# Altium schematic symbol library BT740.SchLib: 1 symbol
Pins are listed as number, name and electrical type; pins without a type are passive.

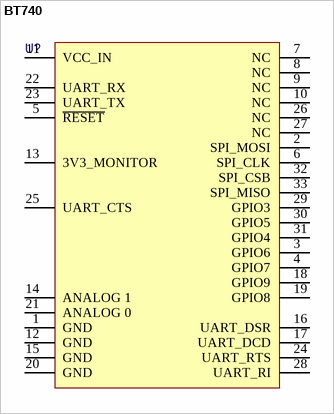
[diagram p0: symbol BT740]

## BT740
designator U?
pins: 1 GND, 2 SPI_MOSI (power), 3 GPIO6, 4 GPIO7, 5 ~{RESET}, 6 SPI_CLK, 7 NC, 8 NC, 9 NC, 10 NC, 11 VCC_IN, 12 GND, 13 3V3_MONITOR, 14 ANALOG 1, 15 GND, 16 UART_DSR, 17 UART_DCD, 18 GPIO9, 19 GPIO8, 20 GND, 21 ANALOG 0, 22 UART_RX, 23 UART_TX, 24 UART_RTS, 25 UART_CTS, 26 NC, 27 NC, 28 UART_RI, 29 GPIO3, 30 GPIO5, 31 GPIO4, 32 SPI_CSB, 33 SPI_MISO